# Altium integrated library TP4056.IntLib: 1 symbol
Pins are listed as number, name and electrical type; pins without a type are passive.

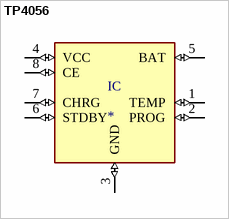
[diagram p0: symbol TP4056]

## TP4056
designator IC
Complete single cell Li-Ion battery with a constant current / constant voltage linear charger; MP: TP4056; MF: NanJing Top Power ASIC Corp.; Package: Package Analog Devices; Value: *; SnapEDA_Link: https://www.snapeda.com/parts/TP4056%20/NanJing%20Top%20Power%20ASIC%20Corp./view-part/2888426/?ref=snap; Price: None; Availability: Unavailable
footprint SOP-8
pins: 1 TEMP (io), 2 PROG (io), 3 GND (io), 4 VCC (io), 5 BAT (io), 6 STDBY (io), 7 CHRG (io), 8 CE (io)